# Altium schematic symbol library Lab5.SchLib: 2 symbols
Pins are listed as number, name and electrical type; pins without a type are passive.

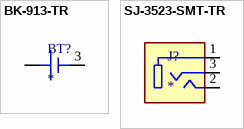
[diagram p0: symbols BK-913-TR to SJ-3523-SMT-TR]

## BK-913-TR
designator BT?
Battery Retainer Coin, 20.0mm 1 Cell PC Pin; MF: MPD (Memory Protection Devices); MP: BK-913-TR; SnapEDA_Link: https://www.snapeda.com/parts/BK-913-TR/Memory+Protection+Devices/view-part/?ref=snap; Package: None; Value: *; Check_prices: https://www.snapeda.com/parts/BK-913-TR/Memory+Protection+Devices/view-part/?ref=eda
footprint BAT_BK-913-TR
pins: 1 POS, 2 POS, 3 NEG

## SJ-3523-SMT-TR
designator J?
<b>Audio Jack Connector</b> 3.5 mm Low Profile Surface Mount Stereo Jack, 3 Pin Right-Angle; MP: SJ-3523-SMT-TR; Package: None; Value: *; Availability: Unavailable; Price: None
footprint CUI_SJ-3523-SMT-TR
pins: 1, 2, 3